# EAGLE library part MIC94163YCS-TR (library SamacSys_Parts)
MICROCHIP - MIC94163YCS-TR - INTEGRATED LOAD SW, 5.5V, WLCSP-6 Source: Datasheet <https://eu.mouser.com/datasheet/2/268/MIC9416x-778816.pdf>
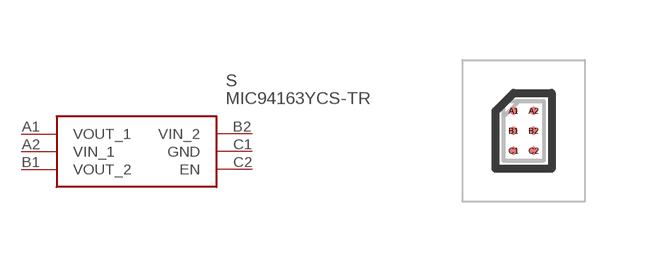
[diagram p0: symbol with the pads of BGA6C50P2X3_100X150X68; footprint BGA6C50P2X3_100X150X68]

Designator prefix S

## MIC94163YCS-TR (Description: MICROCHIP - MIC94163YCS-TR - INTEGRATED LOAD SW, 5.5V, WLCSP-6; Height: 0.675mm; Manufacturer_Name: Microchip; Manufacturer_Part_Number: MIC94163YCS-TR; Mouser_Part_Number: 998-MIC94163YCS-TR)  [BGA6C50P2X3_100X150X68]
A1  VOUT_1
A2  VIN_1
B1  VOUT_2
B2  VIN_2
C1  GND
C2  EN

## Footprint BGA6C50P2X3_100X150X68 (pad centres in mm)
1.5MM X 1 6BALL WLCSP
smd 0.2 x 0.2: A1 -0.25,0.5; A2 0.25,0.5; B1 -0.25,0; B2 0.25,0; C1 -0.25,-0.5; C2 0.25,-0.5